# Altium footprint library 31_lib.PcbLib: 49 footprints (part 3 of 4)
Each footprint in its own frame and in the unit in brackets; x right, y up, seen from the top. Pads: shape width x height; smd on the part's side, far side on the other; paste and mask are expansions set on the pad; w line width, h text height; cw(c..) or ccw(c..) is an arc to the next point about the centre after c.
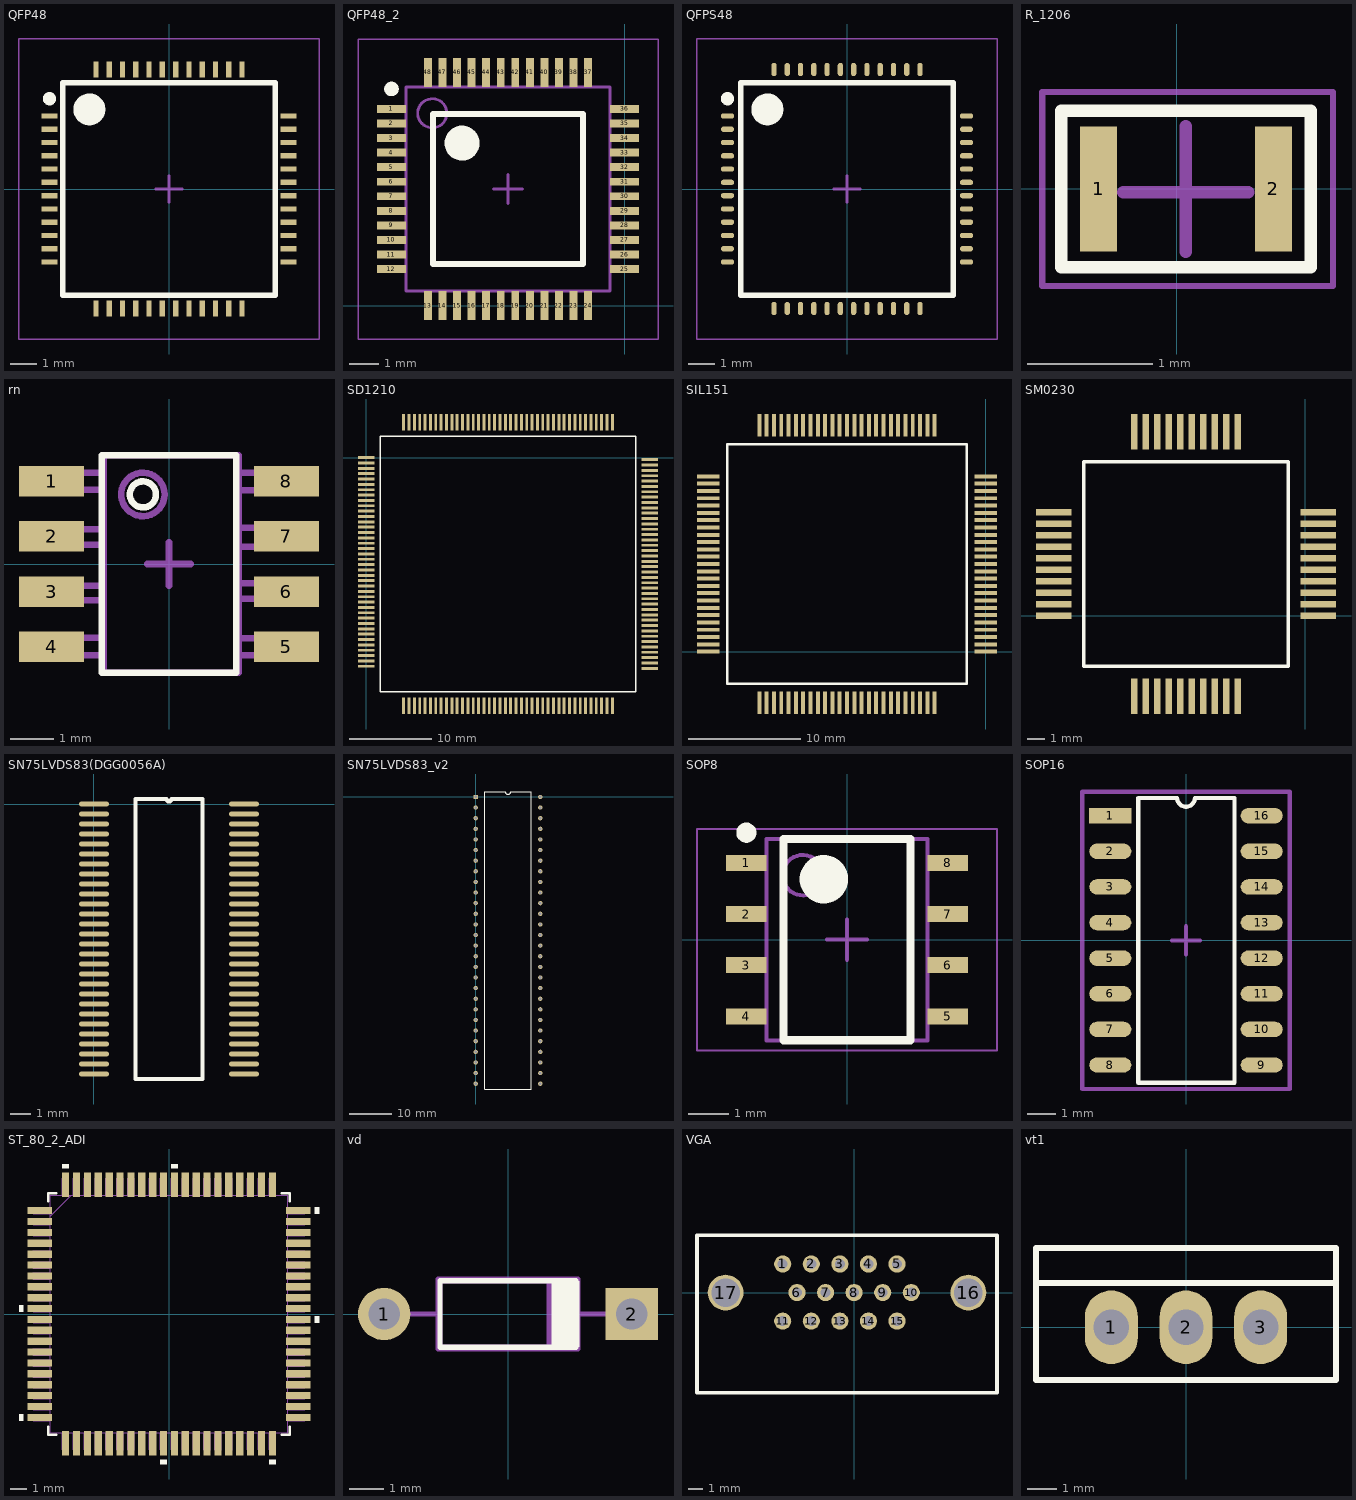
[diagram p2: the footprints below, top view; thin cyan lines are the x and y axes]

## QFP48 [mm]
height 1.6
pads (48):
  rect 0.6x0.2 smd: 1(-4.5,2.75) 2(-4.5,2.25) 3(-4.5,1.75) 4(-4.5,1.25) 5(-4.5,0.75) 6(-4.5,0.25) 7(-4.5,-0.25) 8(-4.5,-0.75) 9(-4.5,-1.25) 10(-4.5,-1.75) 11(-4.5,-2.25) 12(-4.5,-2.75) 25(4.5,-2.75) 26(4.5,-2.25) 27(4.5,-1.75) 28(4.5,-1.25) 29(4.5,-0.75) 30(4.5,-0.25) 31(4.5,0.25) 32(4.5,0.75) 33(4.5,1.25) 34(4.5,1.75) 35(4.5,2.25) 36(4.5,2.75)
  rect 0.2x0.6 smd: 13(-2.75,-4.5) 14(-2.25,-4.5) 15(-1.75,-4.5) 16(-1.25,-4.5) 17(-0.75,-4.5) 18(-0.25,-4.5) 19(0.25,-4.5) 20(0.75,-4.5) 21(1.25,-4.5) 22(1.75,-4.5) 23(2.25,-4.5) 24(2.75,-4.5) 37(2.75,4.5) 38(2.25,4.5) 39(1.75,4.5) 40(1.25,4.5) 41(0.75,4.5) 42(0.25,4.5) 43(-0.25,4.5) 44(-0.75,4.5) 45(-1.25,4.5) 46(-1.75,4.5) 47(-2.25,4.5) 48(-2.75,4.5)
Top Overlay:
  circle w0.6: c-3,3 r0.3
  circle w0.25: c-4.5,3.4 r0.125
  lines w0.2: -4,-4 4,-4 4,4 -4,4 -4,-4
Mechanical 15:
  lines w0.05: -5.65,-5.65 5.65,-5.65 5.65,5.65 -5.65,5.65 -5.65,-5.65
  lines w0.1: -0.5,0 0.5,0 ; 0,-0.5 0,0.5
3D body: height 1.6, standoff 0.1, extent -4,-4 4,4

## QFP48_2 [mm]
height 1.6
pads (48):
  rect 1x0.27 smd: 1(-8,6.75) 2(-8,6.25) 3(-8,5.75) 4(-8,5.25) 5(-8,4.75) 6(-8,4.25) 7(-8,3.75) 8(-8,3.25) 9(-8,2.75) 10(-8,2.25) 11(-8,1.75) 12(-8,1.25) 25(0,1.25) 26(0,1.75) 27(0,2.25) 28(0,2.75) 29(0,3.25) 30(0,3.75) 31(0,4.25) 32(0,4.75) 33(0,5.25) 34(0,5.75) 35(0,6.25) 36(0,6.75)
  rect 0.27x1 smd: 13(-6.75,0) 14(-6.25,0) 15(-5.75,0) 16(-5.25,0) 17(-4.75,0) 18(-4.25,0) 19(-3.75,0) 20(-3.25,0) 21(-2.75,0) 22(-2.25,0) 23(-1.75,0) 24(-1.25,0) 37(-1.25,8) 38(-1.75,8) 39(-2.25,8) 40(-2.75,8) 41(-3.25,8) 42(-3.75,8) 43(-4.25,8) 44(-4.75,8) 45(-5.25,8) 46(-5.75,8) 47(-6.25,8) 48(-6.75,8)
Top Overlay:
  circle w0.6: c-5.575,5.575 r0.3
  circle w0.25: c-8,7.435 r0.125
  lines w0.2: -6.575,1.425 -1.425,1.425 -1.425,6.575 -6.575,6.575 -6.575,1.425
Mechanical 13:
  circle w0.1: c-6.6,6.6 r0.5
  lines w0.1: -7.5,0.5 -0.5,0.5 -0.5,7.5 -7.5,7.5 -7.5,0.5
Mechanical 15:
  lines w0.05: -9.15,-1.15 1.15,-1.15 1.15,9.15 -9.15,9.15 -9.15,-1.15
  lines w0.1: -4.5,4 -3.5,4 ; -4,3.5 -4,4.5
3D body: height 1.6, standoff 0.17, extent -7.5,0.5 -0.5,7.5

## QFPS48 [mm]
height 1.6
pads (48):
  oval 0.5x0.2 smd: 1(-4.5,2.75) 2(-4.5,2.25) 3(-4.5,1.75) 4(-4.5,1.25) 5(-4.5,0.75) 6(-4.5,0.25) 7(-4.5,-0.25) 8(-4.5,-0.75) 9(-4.5,-1.25) 10(-4.5,-1.75) 11(-4.5,-2.25) 12(-4.5,-2.75) 25(4.5,-2.75) 26(4.5,-2.25) 27(4.5,-1.75) 28(4.5,-1.25) 29(4.5,-0.75) 30(4.5,-0.25) 31(4.5,0.25) 32(4.5,0.75) 33(4.5,1.25) 34(4.5,1.75) 35(4.5,2.25) 36(4.5,2.75)
  oval 0.2x0.5 smd: 13(-2.75,-4.5) 14(-2.25,-4.5) 15(-1.75,-4.5) 16(-1.25,-4.5) 17(-0.75,-4.5) 18(-0.25,-4.5) 19(0.25,-4.5) 20(0.75,-4.5) 21(1.25,-4.5) 22(1.75,-4.5) 23(2.25,-4.5) 24(2.75,-4.5) 37(2.75,4.5) 38(2.25,4.5) 39(1.75,4.5) 40(1.25,4.5) 41(0.75,4.5) 42(0.25,4.5) 43(-0.25,4.5) 44(-0.75,4.5) 45(-1.25,4.5) 46(-1.75,4.5) 47(-2.25,4.5) 48(-2.75,4.5)
Top Overlay:
  circle w0.25: c-4.5,3.4 r0.125
  circle w0.6: c-3,3 r0.3
  lines w0.2: -4,-4 -4,4 4,4 4,-4 -4,-4
Mechanical 15:
  lines w0.05: -5.65,-5.65 -5.65,5.65 5.65,5.65 5.65,-5.65 -5.65,-5.65
  lines w0.1: -0.5,0 0.5,0 ; 0,-0.5 0,0.5
3D body: height 1.6, standoff 0.1, extent -4,-4 4,4

## R_1206 [mm]
height 0.6
pads (2):
  rect 0.3x1 smd: 1(-0.625,0) 2(0.775,0)
Top Overlay:
  lines w0.1: -0.925,-0.625 -0.925,0.625 1.075,0.625 1.075,-0.625 -0.925,-0.625
Mechanical 15:
  lines w0.05: -1.075,-0.775 1.25,-0.775 1.25,0.775 -1.075,0.775 -1.075,-0.775
  lines w0.1: -0.425,-0.025 0.575,-0.025 ; 0.075,-0.5 0.075,0.5
3D body: height 0.6, standoff 0, extent -0.925,-0.625 1.075,0.625

## rn [mm] "8-Lead Plastic Small Outline, Body 4,90x3,85mm, Pitch 1,27mm, IPC Medium Density"
height 1.36
pads (8):
  rect 1.5x0.7 smd: 1(-2.7,1.905) 2(-2.7,0.635) 3(-2.7,-0.635) 4(-2.7,-1.905) 5(2.7,-1.905) 6(2.7,-0.635) 7(2.7,0.635) 8(2.7,1.905)
Top Overlay:
  circle w0.15: c-0.6,1.6 r0.3
  lines w0.15: -1.55,-2.5 1.55,-2.5 1.55,2.5 -1.55,2.5 -1.55,-2.5
  text "." at -2.7,2.8 h0.1
Mechanical 2:
  lines w0.15: -0.5,0 0.5,0 ; 0,-0.5 0,0.5
Mechanical 29:
  circle w0.15: c-0.6,1.6 r0.5
  lines w0.15: -3.3,-2.1 -3.3,-1.7 -1.5,-1.7 -1.5,-2.1 -3.3,-2.1 ; -3.3,-0.83 -3.3,-0.5 -1.5,-0.5 -1.5,-0.83 -3.3,-0.83 ; -3.3,0.44 -3.3,0.8 -1.5,0.8 -1.5,0.44 -3.3,0.44 ; -3.3,1.71 -1.5,1.71 -1.5,2.1 -3.3,2.1 -3.3,1.71 ; -1.5,-2.5 -1.5,2.5 1.6,2.5 1.6,-2.5 -1.5,-2.5 ; 1.6,-2.1 3.3,-2.1 3.3,-1.71 1.6,-1.71 1.6,-2.1 ; 1.6,-0.8 3.3,-0.8 3.3,-0.44 1.6,-0.44 1.6,-0.8 ; 1.6,0.4 3.3,0.4 3.3,0.83 1.6,0.83 1.6,0.4 ; 1.6,1.7 3.3,1.7 3.3,2.1 1.6,2.1 1.6,1.7
  text ".Designator" at -1.3,-0.4 h1

## SD1210 [mm]
pads (160):
  rect 2x0.35 smd: 1(0,0) 2(0,-0.65) 3(0,-1.3) 4(0,-1.95) 5(0,-2.6) 6(0,-3.25) 7(0,-3.9) 8(0,-4.55) 9(0,-5.2) 10(0,-5.85) 11(0,-6.5) 12(0,-7.15) 13(0,-7.8) 14(0,-8.45) 15(0,-9.1) 16(0,-9.75) 17(0,-10.4) 18(0,-11.05) 19(0,-11.7) 20(0,-12.35) 21(0,-13) 22(0,-13.65) 23(0,-14.3) 24(0,-14.95) 25(0,-15.6) 26(0,-16.25) 27(0,-16.9) 28(0,-17.55) 29(0,-18.2) 30(0,-18.85) 31(0,-19.5) 32(0,-20.15) 33(0,-20.8) 34(0,-21.45) 35(0,-22.1) 36(0,-22.75) 37(0,-23.4) 38(0,-24.05) 39(0,-24.7) 40(0,-25.35) 81(34.45,-25.6) 82(34.45,-24.95) 83(34.45,-24.3) 84(34.45,-23.65) 85(34.45,-23) 86(34.45,-22.35) 87(34.45,-21.7) 88(34.45,-21.05) 89(34.45,-20.4) 90(34.45,-19.75) 91(34.45,-19.1) 92(34.45,-18.45) 93(34.45,-17.8) 94(34.45,-17.15) 95(34.45,-16.5) 96(34.45,-15.85) 97(34.45,-15.2) 98(34.45,-14.55) 99(34.45,-13.9) 100(34.45,-13.25) 101(34.45,-12.6) 102(34.45,-11.95) 103(34.45,-11.3) 104(34.45,-10.65) 105(34.45,-10) 106(34.45,-9.35) 107(34.45,-8.7) 108(34.45,-8.05) 109(34.45,-7.4) 110(34.45,-6.75) 111(34.45,-6.1) 112(34.45,-5.45) 113(34.45,-4.8) 114(34.45,-4.15) 115(34.45,-3.5) 116(34.45,-2.85) 117(34.45,-2.2) 118(34.45,-1.55) 119(34.45,-0.9) 120(34.45,-0.25)
  rect 0.35x2 smd: 41(4.55,-30.15) 42(5.2,-30.15) 43(5.85,-30.15) 44(6.5,-30.15) 45(7.15,-30.15) 46(7.8,-30.15) 47(8.45,-30.15) 48(9.1,-30.15) 49(9.75,-30.15) 50(10.4,-30.15) 51(11.05,-30.15) 52(11.7,-30.15) 53(12.35,-30.15) 54(13,-30.15) 55(13.65,-30.15) 56(14.3,-30.15) 57(14.95,-30.15) 58(15.6,-30.15) 59(16.25,-30.15) 60(16.9,-30.15) 61(17.55,-30.15) 62(18.2,-30.15) 63(18.85,-30.15) 64(19.5,-30.15) 65(20.15,-30.15) 66(20.8,-30.15) 67(21.45,-30.15) 68(22.1,-30.15) 69(22.75,-30.15) 70(23.4,-30.15) 71(24.05,-30.15) 72(24.7,-30.15) 73(25.35,-30.15) 74(26,-30.15) 75(26.65,-30.15) 76(27.3,-30.15) 77(27.95,-30.15) 78(28.6,-30.15) 79(29.25,-30.15) 80(29.9,-30.15) 121(29.9,4.3) 122(29.25,4.3) 123(28.6,4.3) 124(27.95,4.3) 125(27.3,4.3) 126(26.65,4.3) 127(26,4.3) 128(25.35,4.3) 129(24.7,4.3) 130(24.05,4.3) 131(23.4,4.3) 132(22.75,4.3) 133(22.1,4.3) 134(21.45,4.3) 135(20.8,4.3) 136(20.15,4.3) 137(19.5,4.3) 138(18.85,4.3) 139(18.2,4.3) 140(17.55,4.3) 141(16.9,4.3) 142(16.25,4.3) 143(15.6,4.3) 144(14.95,4.3) 145(14.3,4.3) 146(13.65,4.3) 147(13,4.3) 148(12.35,4.3) 149(11.7,4.3) 150(11.05,4.3) 151(10.4,4.3) 152(9.75,4.3) 153(9.1,4.3) 154(8.45,4.3) 155(7.8,4.3) 156(7.15,4.3) 157(6.5,4.3) 158(5.85,4.3) 159(5.2,4.3) 160(4.55,4.3)
Top Overlay:
  lines w0.2: 1.685,2.615 1.685,-28.465 32.765,-28.465 32.765,2.615 1.75,2.615

## SIL151 [mm]
pads (100):
  rect 2x0.35 smd: 1(0,0) 2(0,0.65) 3(0,1.3) 4(0,1.95) 5(0,2.6) 6(0,3.25) 7(0,3.9) 8(0,4.55) 9(0,5.2) 10(0,5.85) 11(0,6.5) 12(0,7.15) 13(0,7.8) 14(0,8.45) 15(0,9.1) 16(0,9.75) 17(0,10.4) 18(0,11.05) 19(0,11.7) 20(0,12.35) 21(0,13) 22(0,13.65) 23(0,14.3) 24(0,14.95) 25(0,15.6) 51(-24.7,15.6) 52(-24.7,14.95) 53(-24.7,14.3) 54(-24.7,13.65) 55(-24.7,13) 56(-24.7,12.35) 57(-24.7,11.7) 58(-24.7,11.05) 59(-24.7,10.4) 60(-24.7,9.75) 61(-24.7,9.1) 62(-24.7,8.45) 63(-24.7,7.8) 64(-24.7,7.15) 65(-24.7,6.5) 66(-24.7,5.85) 67(-24.7,5.2) 68(-24.7,4.55) 69(-24.7,3.9) 70(-24.7,3.25) 71(-24.7,2.6) 72(-24.7,1.95) 73(-24.7,1.3) 74(-24.7,0.65) 75(-24.7,0)
  rect 0.35x2 smd: 26(-4.55,20.15) 27(-5.2,20.15) 28(-5.85,20.15) 29(-6.5,20.15) 30(-7.15,20.15) 31(-7.8,20.15) 32(-8.45,20.15) 33(-9.1,20.15) 34(-9.75,20.15) 35(-10.4,20.15) 36(-11.05,20.15) 37(-11.7,20.15) 38(-12.35,20.15) 39(-13,20.15) 40(-13.65,20.15) 41(-14.3,20.15) 42(-14.95,20.15) 43(-15.6,20.15) 44(-16.25,20.15) 45(-16.9,20.15) 46(-17.55,20.15) 47(-18.2,20.15) 48(-18.85,20.15) 49(-19.5,20.15) 50(-20.15,20.15) 76(-20.15,-4.55) 77(-19.5,-4.55) 78(-18.85,-4.55) 79(-18.2,-4.55) 80(-17.55,-4.55) 81(-16.9,-4.55) 82(-16.25,-4.55) 83(-15.6,-4.55) 84(-14.95,-4.55) 85(-14.3,-4.55) 86(-13.65,-4.55) 87(-13,-4.55) 88(-12.35,-4.55) 89(-11.7,-4.55) 90(-11.05,-4.55) 91(-10.4,-4.55) 92(-9.75,-4.55) 93(-9.1,-4.55) 94(-8.45,-4.55) 95(-7.8,-4.55) 96(-7.15,-4.55) 97(-6.5,-4.55) 98(-5.85,-4.55) 99(-5.2,-4.55) 100(-4.55,-4.55)
Top Overlay:
  lines w0.2: -23.015,18.465 -23.015,-2.865 -1.685,-2.865 -1.685,18.465 -23,18.465

## SM0230 [mm]
pads (40):
  rect 2x0.35 smd: 1(0.75,0) 2(0.75,0.65) 3(0.75,1.3) 4(0.75,1.95) 5(0.75,2.6) 6(0.75,3.25) 7(0.75,3.9) 8(0.75,4.55) 9(0.75,5.2) 10(0.75,5.85) 21(-14.2,5.85) 22(-14.2,5.2) 23(-14.2,4.55) 24(-14.2,3.9) 25(-14.2,3.25) 26(-14.2,2.6) 27(-14.2,1.95) 28(-14.2,1.3) 29(-14.2,0.65) 30(-14.2,0)
  rect 0.35x2 smd: 11(-3.8,10.4) 12(-4.45,10.4) 13(-5.1,10.4) 14(-5.75,10.4) 15(-6.4,10.4) 16(-7.05,10.4) 17(-7.7,10.4) 18(-8.35,10.4) 19(-9,10.4) 20(-9.65,10.4) 31(-9.65,-4.55) 32(-9,-4.55) 33(-8.35,-4.55) 34(-7.7,-4.55) 35(-7.05,-4.55) 36(-6.4,-4.55) 37(-5.75,-4.55) 38(-5.1,-4.55) 39(-4.45,-4.55) 40(-3.8,-4.55)
Top Overlay:
  lines w0.2: -12.515,8.715 -12.515,-2.865 -0.935,-2.865 -0.935,8.715 -12.5,8.715

## SN75LVDS83(DGG0056A) [mm]
pads (56):
  oval 1.5x0.25 smd: 1(0,0) 2(0,-0.5) 3(0,-1) 4(0,-1.5) 5(0,-2) 6(0,-2.5) 7(0,-3) 8(0,-3.5) 9(0,-4) 10(0,-4.5) 11(0,-5) 12(0,-5.5) 13(0,-6) 14(0,-6.5) 15(0,-7) 16(0,-7.5) 17(0,-8) 18(0,-8.5) 19(0,-9) 20(0,-9.5) 21(0,-10) 22(0,-10.5) 23(0,-11) 24(0,-11.5) 25(0,-12) 26(0,-12.5) 27(0,-13) 28(0,-13.5) 29(7.5,-13.5) 30(7.5,-13) 31(7.5,-12.5) 32(7.5,-12) 33(7.5,-11.5) 34(7.5,-11) 35(7.5,-10.5) 36(7.5,-10) 37(7.5,-9.5) 38(7.5,-9) 39(7.5,-8.5) 40(7.5,-8) 41(7.5,-7.5) 42(7.5,-7) 43(7.5,-6.5) 44(7.5,-6) 45(7.5,-5.5) 46(7.5,-5) 47(7.5,-4.5) 48(7.5,-4) 49(7.5,-3.5) 50(7.5,-3) 51(7.5,-2.5) 52(7.5,-2) 53(7.5,-1.5) 54(7.5,-1) 55(7.5,-0.5) 56(7.5,0)
Top Overlay:
  lines w0.2: 2.085,-13.75 2.085,0.25 3.625,0.25 ccw(c3.75,0.25) 3.875,0.25 5.415,0.25 5.415,-13.75 2.085,-13.75

## SN75LVDS83_v2 [mm]
pads (56):
  rect 1x1 hole 0.6: 1(0,0)
  round 1 hole 0.6: 2(0,-2.5) 3(0,-5) 4(0,-7.5) 5(0,-10) 6(0,-12.5) 7(0,-15) 8(0,-17.5) 9(0,-20) 10(0,-22.5) 11(0,-25) 12(0,-27.5) 13(0,-30) 14(0,-32.5) 15(0,-35) 16(0,-37.5) 17(0,-40) 18(0,-42.5) 19(0,-45) 20(0,-47.5) 21(0,-50) 22(0,-52.5) 23(0,-55) 24(0,-57.5) 25(0,-60) 26(0,-62.5) 27(0,-65) 28(0,-67.5) 29(15.2,-67.5) 30(15.2,-65) 31(15.2,-62.5) 32(15.2,-60) 33(15.2,-57.5) 34(15.2,-55) 35(15.2,-52.5) 36(15.2,-50) 37(15.2,-47.5) 38(15.2,-45) 39(15.2,-42.5) 40(15.2,-40) 41(15.2,-37.5) 42(15.2,-35) 43(15.2,-32.5) 44(15.2,-30) 45(15.2,-27.5) 46(15.2,-25) 47(15.2,-22.5) 48(15.2,-20) 49(15.2,-17.5) 50(15.2,-15) 51(15.2,-12.5) 52(15.2,-10) 53(15.2,-7.5) 54(15.2,-5) 55(15.2,-2.5) 56(15.2,0)
Top Overlay:
  lines w0.2: 2.085,-68.75 2.085,1.25 6.975,1.25 ccw(c7.6,1.25) 8.225,1.25 13.115,1.25 13.115,-68.75 2.085,-68.75

## SOP8 [mm] "SOIC, 8-Leads, Body 5,00x4,00mm, Pitch 1,27mm, Thermal Pad 0,00.2x0,00.2mm, IPC Medium Density"
height 2
pads (8):
  rect 1x0.4 smd: 1(-2.5,1.905) 2(-2.5,0.635) 3(-2.5,-0.635) 4(-2.5,-1.905) 5(2.5,-1.905) 6(2.5,-0.635) 7(2.5,0.635) 8(2.5,1.905)
Top Overlay:
  circle w0.25: c-2.5,2.655 r0.125
  circle w0.6: c-0.575,1.5 r0.3
  lines w0.2: -1.575,-2.5 -1.575,2.5 1.575,2.5 1.575,-2.5 -1.575,-2.5
Mechanical 13:
  circle w0.1: c-1.1,1.6 r0.5
  lines w0.1: -2,-2.5 -2,2.5 2,2.5 2,-2.5 -2,-2.5
Mechanical 15:
  lines w0.05: -3.725,-2.75 -3.725,2.75 3.725,2.75 3.725,-2.75 -3.725,-2.75
  lines w0.1: -0.5,0 0.5,0 ; 0,-0.5 0,0.5
3D body: height 2, standoff 1, extent -2,-2.5 2,2.5

## SOP16 [mm]
pads (16):
  rect 1.5x0.55 smd: 1(-2.7,4.445)
  oval 1.5x0.55 smd: 2(-2.7,3.175) 3(-2.7,1.905) 4(-2.7,0.635) 5(-2.7,-0.635) 6(-2.7,-1.905) 7(-2.7,-3.175) 8(-2.7,-4.445) 9(2.7,-4.445) 10(2.7,-3.175) 11(2.7,-1.905) 12(2.7,-0.635) 13(2.7,0.635) 14(2.7,1.905) 15(2.7,3.175) 16(2.7,4.445)
Top Overlay:
  lines w0.15: -1.7,-5.08 1.725,-5.08 1.725,5.08 0.318,5.08 cw(c0,5.08) -0.318,5.08 -1.7,5.08 -1.7,-5.08
  text "." at -2.7,5.145 h0.1
Mechanical 2:
  lines w0.15: -0.5,0 0.5,0 ; 0,-0.5 0,0.5 ; -3.7,-5.3 3.7,-5.3 3.7,5.3 -3.7,5.3 -3.7,-5.3
3D body: height 1.75, standoff 0, extent -3.1,-4.955 3.1,4.945

## ST_80_2_ADI [mm]
pads (80):
  rect 1.462x0.431 smd paste+0 mask+0: 1(-7.722,6.175) 2(-7.722,5.525) 3(-7.722,4.875) 4(-7.722,4.225) 5(-7.722,3.575) 6(-7.722,2.925) 7(-7.722,2.275) 8(-7.722,1.625) 9(-7.722,0.975) 10(-7.722,0.325) 11(-7.722,-0.325) 12(-7.722,-0.975) 13(-7.722,-1.625) 14(-7.722,-2.275) 15(-7.722,-2.925) 16(-7.722,-3.575) 17(-7.722,-4.225) 18(-7.722,-4.875) 19(-7.722,-5.525) 20(-7.722,-6.175) 41(7.722,-6.175) 42(7.722,-5.525) 43(7.722,-4.875) 44(7.722,-4.225) 45(7.722,-3.575) 46(7.722,-2.925) 47(7.722,-2.275) 48(7.722,-1.625) 49(7.722,-0.975) 50(7.722,-0.325) 51(7.722,0.325) 52(7.722,0.975) 53(7.722,1.625) 54(7.722,2.275) 55(7.722,2.925) 56(7.722,3.575) 57(7.722,4.225) 58(7.722,4.875) 59(7.722,5.525) 60(7.722,6.175)
  rect 0.431x1.462 smd paste+0 mask+0: 21(-6.175,-7.722) 22(-5.525,-7.722) 23(-4.875,-7.722) 24(-4.225,-7.722) 25(-3.575,-7.722) 26(-2.925,-7.722) 27(-2.275,-7.722) 28(-1.625,-7.722) 29(-0.975,-7.722) 30(-0.325,-7.722) 31(0.325,-7.722) 32(0.975,-7.722) 33(1.625,-7.722) 34(2.275,-7.722) 35(2.925,-7.722) 36(3.575,-7.722) 37(4.225,-7.722) 38(4.875,-7.722) 39(5.525,-7.722) 40(6.175,-7.722) 61(6.175,7.722) 62(5.525,7.722) 63(4.875,7.722) 64(4.225,7.722) 65(3.575,7.722) 66(2.925,7.722) 67(2.275,7.722) 68(1.625,7.722) 69(0.975,7.722) 70(0.325,7.722) 71(-0.325,7.722) 72(-0.975,7.722) 73(-1.625,7.722) 74(-2.275,7.722) 75(-2.925,7.722) 76(-3.575,7.722) 77(-4.225,7.722) 78(-4.875,7.722) 79(-5.525,7.722) 80(-6.175,7.722)
Top Overlay:
  region: -8.707,0.516 -8.961,0.516 -8.961,0.135 -8.707,0.135
  region: -8.707,-5.984 -8.961,-5.984 -8.961,-6.365 -8.707,-6.365
  region: -0.135,-8.707 -0.516,-8.707 -0.516,-8.961 -0.135,-8.961
  region: 6.365,-8.707 5.984,-8.707 5.984,-8.961 6.365,-8.961
  region: 8.707,-0.135 8.961,-0.135 8.961,-0.516 8.707,-0.516
  region: 8.707,6.365 8.961,6.365 8.961,5.984 8.707,5.984
  region: 0.516,8.707 0.135,8.707 0.135,8.961 0.516,8.961
  region: -5.984,8.707 -6.365,8.707 -6.365,8.961 -5.984,8.961
  lines w0.152: -7.226,-6.723 -7.226,-7.226 -6.723,-7.226 ; -7.226,6.723 -7.226,7.226 -6.723,7.226 ; 6.723,-7.226 7.226,-7.226 7.226,-6.723 ; 6.723,7.226 7.226,7.226 7.226,6.723
Mechanical 13:
  drawing of 325 lines, arcs and shapes, not listed

## vd [mm] "Diode, Axial; Body 3.8 x 1.9 mm (LxDia. max), Lead Dia. 0.53 mm (max)"
height 1.9
pads (2):
  round 1.5 hole 0.9: 1(-3.55,0)
  rect 1.5x1.5 hole 0.9: 2(3.55,0)
Top Overlay:
  rectangle: 1.25,-0.95 2.05,0.95
  lines w0.15: 1.95,-0.95 -1.95,-0.95 -1.95,0.95 1.95,0.95
  text "." at 2.35,-0.8 h0.1
Mechanical 2:
  lines w0.15: -2,-1 -2,1 2,1 2,-1 -2,-1
Mechanical 29:
  rectangle: 1.1,-0.95 1.95,0.95
  lines w0.15: -3.55,0 -1.95,0 ; 1.95,0 3.55,0 ; -1.95,-0.95 1.95,-0.95 1.95,0.95 -1.95,0.95 -1.95,-0.95
3D body: height 2.06, standoff -2.35, extent -3.805,-0.96 3.855,0.96

## VGA [mm]
pads (17):
  round 1.2 hole 0.7: 1(-5,2) 2(-3,2) 3(-1,2) 4(1,2) 5(3,2) 6(-4,0) 7(-2,0) 8(0,0) 9(2,0) 10(4,0) 11(-5,-2) 12(-3,-2) 13(-1,-2) 14(1,-2) 15(3,-2)
  round 2.5 hole 2: 16(8,0) 17(-9,0)
Top Overlay:
  lines w0.254: -11,-7 -11,4 10,4 10,-7 -11,-7

## vt1 [mm]
height 13
pads (3):
  oval 1.8x2.5 hole 1.2: 1(-2.54,0) 2(0,0) 3(2.54,0)
Top Overlay:
  lines w0.2: -5.1,1.5 5.1,1.5 ; -5.1,-1.8 5.1,-1.8 5.1,2.7 -5.1,2.7 -5.1,-1.8